# Altium footprint library WS-TASV.PcbLib: 26 footprints (part 1 of 2)
Each footprint in its own frame and in the unit in brackets; x right, y up, seen from the top. Pads: shape width x height; smd on the part's side, far side on the other; paste and mask are expansions set on the pad; w line width, h text height; cw(c..) or ccw(c..) is an arc to the next point about the centre after c.
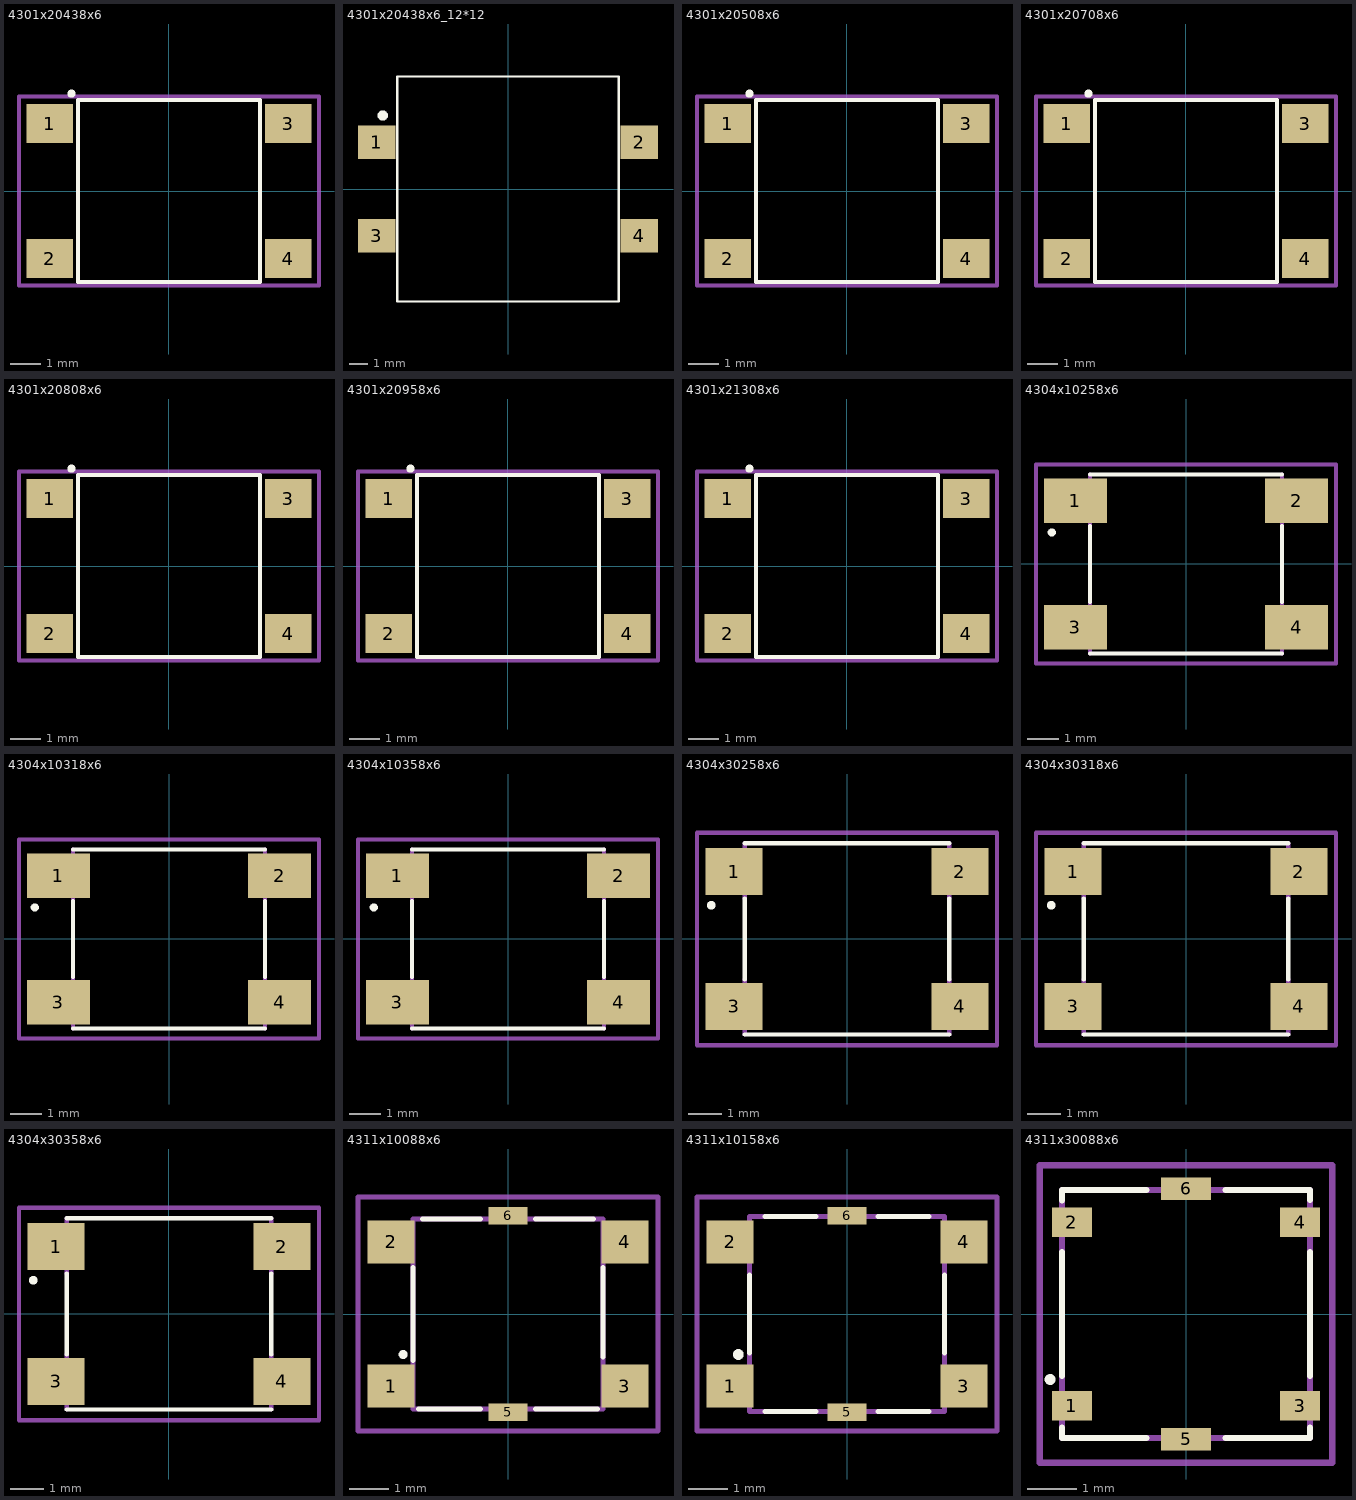
[diagram p0: the footprints below, top view; thin cyan lines are the x and y axes]

## 4301x20438x6 [mm] "6*6mm vertical type, SMD, height 4.3mm, black actuator, 160gf, T&R"
height 4.3
pads (4):
  rect 1.55x1.3 smd: 1(-3.975,2.25) 2(-3.975,-2.25) 3(3.975,2.25) 4(3.975,-2.25)
Top Overlay:
  circle w0.2: c-3.25,3.25 r0.036
  lines w0.127: -3.036,-3.036 3.036,-3.036 3.036,3.036 -3.036,3.036 -3.036,-3.036
Mechanical 15:
  lines w0.127: -5,-3.15 -5,3.15 5,3.15 5,-3.15 -5,-3.15
3D body: height 4.29, standoff -0.01, extent -4.5,-3.1 4.5,3.1

## 4301x20438x6_12*12 [mm] "12*12mm vertical type,SMD, height 4.3mm,  T&R"
height 4.3
pads (4):
  rect 2x1.8 smd: 1(-7,2.5) 2(7,2.5) 3(-7,-2.5) 4(7,-2.5)
Top Overlay:
  circle w0.28: c-6.68,3.92 r0.135
  lines w0.127: -5.9,-6 -5.9,6 5.9,6 5.9,-6 -5.9,-6
3D body: height 4.33, standoff 0.02, extent -7.647,-6.032 7.653,5.968

## 4301x20508x6 [mm] "6*6mm vertical type, SMD, height 5.0mm, black actuator, 160gf, T&R"
height 5
pads (4):
  rect 1.55x1.3 smd: 1(-3.975,2.25) 2(-3.975,-2.25) 3(3.975,2.25) 4(3.975,-2.25)
Top Overlay:
  circle w0.2: c-3.25,3.25 r0.036
  lines w0.127: -3.036,-3.036 3.036,-3.036 3.036,3.036 -3.036,3.036 -3.036,-3.036
Mechanical 15:
  lines w0.127: -5,-3.15 -5,3.15 5,3.15 5,-3.15 -5,-3.15
3D body: height 4.99, standoff -0.01, extent -4.5,-3.1 4.5,3.1

## 4301x20708x6 [mm] "6*6mm vertical type, SMD, height 7.0mm, white actuator, 260gf, T&R"
height 7
pads (4):
  rect 1.55x1.3 smd: 1(-3.975,2.25) 2(-3.975,-2.25) 3(3.975,2.25) 4(3.975,-2.25)
Top Overlay:
  circle w0.2: c-3.25,3.25 r0.036
  lines w0.127: -3.036,-3.036 -3.036,3.036 3.036,3.036 3.036,-3.036 -3.036,-3.036
Mechanical 15:
  lines w0.127: -5,-3.15 5,-3.15 5,3.15 -5,3.15 -5,-3.15
3D body: height 6.99, standoff -0.01, extent -4.5,-3.1 4.5,3.1

## 4301x20808x6 [mm] "6*6mm vertical type, SMD, height 8.0mm, white actuator, 260gf, T&R"
height 8
pads (4):
  rect 1.55x1.3 smd: 1(-3.975,2.25) 2(-3.975,-2.25) 3(3.975,2.25) 4(3.975,-2.25)
Top Overlay:
  circle w0.2: c-3.25,3.25 r0.036
  lines w0.127: -3.036,-3.036 3.036,-3.036 3.036,3.036 -3.036,3.036 -3.036,-3.036
Mechanical 15:
  lines w0.127: -5,-3.15 5,-3.15 5,3.15 -5,3.15 -5,-3.15
3D body: height 7.99, standoff -0.01, extent -4.5,-3.1 4.5,3.1

## 4301x20958x6 [mm] "6*6mm vertical type, SMD, height 9.5mm, black actuator, 160gf, T&R"
height 9
pads (4):
  rect 1.55x1.3 smd: 1(-3.975,2.25) 2(-3.975,-2.25) 3(3.975,2.25) 4(3.975,-2.25)
Top Overlay:
  circle w0.2: c-3.25,3.25 r0.036
  lines w0.127: -3.036,-3.036 3.036,-3.036 3.036,3.036 -3.036,3.036 -3.036,-3.036
Mechanical 15:
  lines w0.127: -5,-3.15 -5,3.15 5,3.15 5,-3.15 -5,-3.15
3D body: height 9.49, standoff -0.01, extent -4.5,-3.1 4.5,3.1

## 4301x21308x6 [mm] "6*6mm vertical type, SMD, height 13.0mm, black actuator, 160gf, T&R"
height 13
pads (4):
  rect 1.55x1.3 smd: 1(-3.975,2.25) 2(-3.975,-2.25) 3(3.975,2.25) 4(3.975,-2.25)
Top Overlay:
  circle w0.2: c-3.25,3.25 r0.036
  lines w0.127: -3.036,-3.036 -3.036,3.036 3.036,3.036 3.036,-3.036 -3.036,-3.036
Mechanical 15:
  lines w0.127: -5,-3.15 5,-3.15 5,3.15 -5,3.15 -5,-3.15
3D body: height 12.99, standoff -0.01, extent -4.5,-3.1 4.5,3.1

## 4304x10258x6 [mm] "6*6mm vertical type,SMD, height 2.5mm, black actuator, 160gf, T&R"
height 2.5
pads (4):
  rect 2x1.4 smd: 1(-3.5,2) 2(3.5,2) 3(-3.5,-2) 4(3.5,-2)
Top Overlay:
  circle w0.2: c-4.25,1 r0.028
  lines w0.127: -3.036,-2.836 3.036,-2.836 ; -3.036,-1.2 -3.036,1.2 ; -3.036,2.836 3.036,2.836 ; 3.036,-1.2 3.036,1.2
Mechanical 13:
  lines w0.127: -3.036,-2.836 -3.036,-1.2 ; -3.036,1.2 -3.036,2.836 ; 3.036,-2.836 3.036,-1.2 ; 3.036,1.2 3.036,2.836
Mechanical 15:
  lines w0.127: -4.75,-3.15 4.75,-3.15 4.75,3.15 -4.75,3.15 -4.75,-3.15
3D body: height 2.51, standoff 0.01, extent -4,-3.1 4,3.1

## 4304x10318x6 [mm] "6*6mm vertical type,SMD, height 3.1mm, salmon actuator, 360gf, T&R"
height 3.1
pads (4):
  rect 2x1.4 smd: 1(-3.5,2) 2(3.5,2) 3(-3.5,-2) 4(3.5,-2)
Top Overlay:
  circle w0.2: c-4.25,1 r0.028
  lines w0.127: -3.036,-2.836 3.036,-2.836 ; -3.036,-1.2 -3.036,1.2 ; -3.036,2.836 3.036,2.836 ; 3.036,-1.2 3.036,1.2
Mechanical 13:
  lines w0.127: -3.036,-2.836 -3.036,-1.2 ; -3.036,1.2 -3.036,2.836 ; 3.036,-2.836 3.036,-1.2 ; 3.036,1.2 3.036,2.836
Mechanical 15:
  lines w0.127: -4.75,-3.15 -4.75,3.15 4.75,3.15 4.75,-3.15 -4.75,-3.15
3D body: height 3.11, standoff 0.01, extent -4,-3.1 4,3.1

## 4304x10358x6 [mm] "6*6mm vertical type,SMD,  height 3.5mm, salmon actuator, 360gf, T&R"
height 3.5
pads (4):
  rect 2x1.4 smd: 1(-3.5,2) 2(3.5,2) 3(-3.5,-2) 4(3.5,-2)
Top Overlay:
  circle w0.2: c-4.25,1 r0.028
  lines w0.127: -3.036,-2.836 3.036,-2.836 ; -3.036,-1.2 -3.036,1.2 ; -3.036,2.836 3.036,2.836 ; 3.036,-1.2 3.036,1.2
Mechanical 13:
  lines w0.127: -3.036,-2.836 -3.036,-1.2 ; -3.036,1.2 -3.036,2.836 ; 3.036,-2.836 3.036,-1.2 ; 3.036,1.2 3.036,2.836
Mechanical 15:
  lines w0.127: -4.75,-3.15 4.75,-3.15 4.75,3.15 -4.75,3.15 -4.75,-3.15
3D body: height 3.51, standoff 0.01, extent -4,-3.1 4,3.1

## 4304x30258x6 [mm] "6*6mm washable vertical type, J-Bend SMD, height 2.5mm, salmon actuator, 360gf, T&R"
height 2.5
pads (4):
  rect 1.7x1.4 smd: 1(-3.35,2) 2(3.35,2) 3(-3.35,-2) 4(3.35,-2)
Top Overlay:
  circle w0.2: c-4.028,1 r0.028
  lines w0.127: -3.036,-2.836 3.036,-2.836 ; -3.036,-1.2 -3.036,1.2 ; -3.036,2.836 3.036,2.836 ; 3.036,-1.2 3.036,1.2
Mechanical 13:
  lines w0.127: -3.036,-2.836 -3.036,-1.2 ; -3.036,1.2 -3.036,2.836 ; 3.036,-2.836 3.036,-1.2 ; 3.036,1.2 3.036,2.836
Mechanical 15:
  lines w0.127: -4.45,-3.15 4.45,-3.15 4.45,3.15 -4.45,3.15 -4.45,-3.15
3D body: height 2.51, standoff 0.01, extent -3.6,-3.1 3.6,3.1

## 4304x30318x6 [mm] "6*6mm vertical type, J-Bend SMD, height 3.1mm, salmon actuator, 360gf, T&R"
height 3.1
pads (4):
  rect 1.7x1.4 smd: 1(-3.35,2) 2(3.35,2) 3(-3.35,-2) 4(3.35,-2)
Top Overlay:
  circle w0.2: c-4,1 r0.028
  lines w0.127: -3.036,-2.836 3.036,-2.836 ; -3.036,-1.2 -3.036,1.2 ; -3.036,2.836 3.036,2.836 ; 3.036,-1.2 3.036,1.2
Mechanical 13:
  lines w0.127: -3.036,-2.836 -3.036,-1.2 ; -3.036,1.2 -3.036,2.836 ; 3.036,-2.836 3.036,-1.2 ; 3.036,1.2 3.036,2.836
Mechanical 15:
  lines w0.127: -4.45,-3.15 4.45,-3.15 4.45,3.15 -4.45,3.15 -4.45,-3.15
3D body: height 3.11, standoff 0.01, extent -3.6,-3.1 3.6,3.1

## 4304x30358x6 [mm] "6*6mm vertical type, J-Bend SMD,  height 3.5mm, salmon actuator, 360gf, T&R"
height 3.5
pads (4):
  rect 1.7x1.4 smd: 1(-3.35,2) 2(3.35,2) 3(-3.35,-2) 4(3.35,-2)
Top Overlay:
  circle w0.2: c-4.028,1 r0.028
  lines w0.127: -3.036,-2.836 3.036,-2.836 ; -3.036,-1.2 -3.036,1.2 ; -3.036,2.836 3.036,2.836 ; 3.036,-1.2 3.036,1.2
Mechanical 13:
  lines w0.127: -3.036,-2.836 -3.036,-1.2 ; -3.036,1.2 -3.036,2.836 ; 3.036,-2.836 3.036,-1.2 ; 3.036,1.2 3.036,2.836
Mechanical 15:
  lines w0.127: -4.45,-3.15 4.45,-3.15 4.45,3.15 -4.45,3.15 -4.45,-3.15
3D body: height 3.51, standoff 0.01, extent -3.6,-3.1 3.6,3.1

## 4311x10088x6 [mm] "5*5mm vertical type, SMD, height 0.8mm, no actuator, 260gf, Grounded Terminal, T&R"
height 0.8
pads (6):
  rect 1.2x1.1 smd: 1(-3,-1.85) 2(-3,1.85) 3(3,-1.85) 4(3,1.85)
  rect 1x0.45 smd: 5(0,-2.525) 6(0,2.525)
Top Overlay:
  circle w0.2: c-2.69,-1.04 r0.014
  lines w0.127: -2.437,-1.2 -2.437,1.2 ; -2.3,-2.437 -0.7,-2.437 ; -2.2,2.437 -0.7,2.437 ; 0.7,-2.437 2.3,-2.437 ; 0.7,2.437 2.2,2.437 ; 2.437,-1.1 2.437,1.2
Mechanical 13:
  lines w0.127: -2.437,-2.437 2.437,-2.437 2.437,2.437 -2.437,2.437 -2.437,-2.437
Mechanical 15:
  lines w0.127: -3.85,-3 3.85,-3 3.85,3 -3.85,3 -3.85,-3
3D body: height 0.81, standoff 0.01, extent -3.1,-2.5 3.1,2.5

## 4311x10158x6 [mm] "5*5mm vertical type, SMD, height 1.5mm, white actuator, 260gf, Grounded Terminal, T&R"
height 1.5
pads (6):
  rect 1.2x1.1 smd: 1(-3,-1.85) 2(-3,1.85) 3(3,-1.85) 4(3,1.85)
  rect 1x0.45 smd: 5(0,-2.525) 6(0,2.525)
Top Overlay:
  circle w0.2: c-2.79,-1.04 r0.036
  lines w0.127: -2.5,-1 -2.5,1 ; -2.1,-2.5 -0.8,-2.5 ; -2.1,2.5 -0.8,2.5 ; 0.8,-2.5 2.1,-2.5 ; 0.8,2.5 2.1,2.5 ; 2.5,-1 2.5,1
Mechanical 13:
  lines w0.127: -2.5,-2.5 2.5,-2.5 2.5,2.5 -2.5,2.5 -2.5,-2.5
Mechanical 15:
  lines w0.127: -3.85,-3 3.85,-3 3.85,3 -3.85,3 -3.85,-3
3D body: height 1.49, standoff -0.01, extent -3.1,-2.5 3.1,2.5

## 4311x30088x6 [mm] "5*5mm vertical type,J-Bend SMD,  height 0.8mm, no actuator, 260gf, Grounded Terminal, T&R"
height 0.8
pads (6):
  rect 0.8x0.6 smd: 1(-2.3,-1.85) 2(-2.3,1.85) 3(2.3,-1.85) 4(2.3,1.85)
  rect 1x0.45 smd: 5(0,-2.525) 6(0,2.525)
Top Overlay:
  circle w0.2: c-2.74,-1.32 r0.01
  lines w0.127: -2.5,-2.29 -2.5,-2.5 -0.8,-2.5 ; -2.5,-1.25 -2.5,1.25 ; -2.5,2.29 -2.5,2.5 -0.8,2.5 ; 0.8,-2.5 2.5,-2.5 2.5,-2.29 ; 0.8,2.5 2.5,2.5 2.5,2.3 ; 2.5,-1.25 2.5,1.25
Mechanical 13:
  lines w0.127: -2.5,-2.5 2.5,-2.5 2.5,2.5 -2.5,2.5 -2.5,-2.5
Mechanical 15:
  lines w0.127: -2.95,-3 2.95,-3 2.95,3 -2.95,3 -2.95,-3
3D body: height 0.9, standoff 0.1, extent -2.55,-2.5 2.55,2.5